# Altium footprint library head2.0mm_5p.PcbLib: 1 footprints
Each footprint in its own frame and in the unit in brackets; x right, y up, seen from the top. Pads: shape width x height; smd on the part's side, far side on the other; paste and mask are expansions set on the pad; w line width, h text height; cw(c..) or ccw(c..) is an arc to the next point about the centre after c.
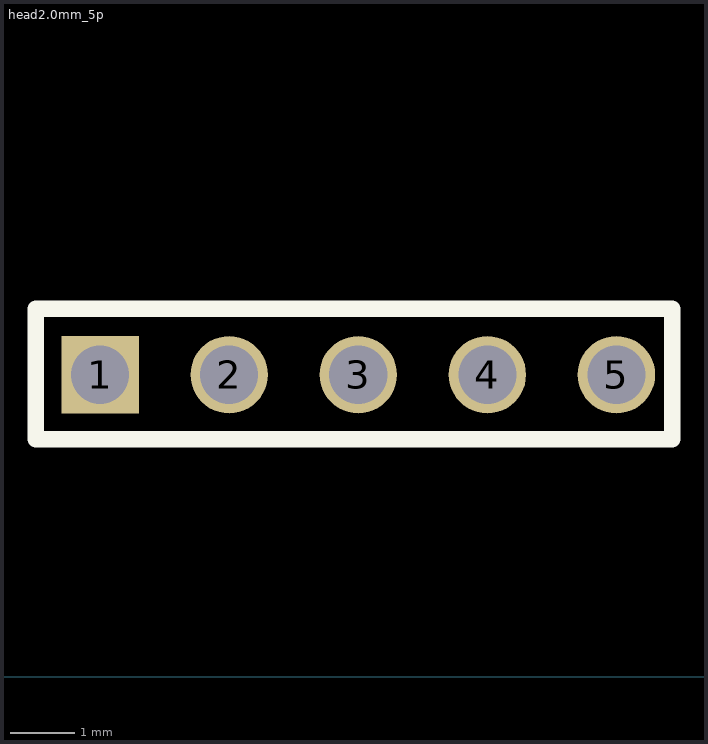
[diagram p0: the footprint, top view; thin cyan lines are the x and y axes]

## head2.0mm_5p [mm]
pads (5):
  rect 1.2x1.2 hole 0.9: 1(4.566,4.679)
  round 1.2 hole 0.9: 2(6.566,4.679) 3(8.566,4.679) 4(10.566,4.679) 5(12.566,4.679)
Top Overlay:
  lines w0.254: 3.57,3.68 13.43,3.68 13.43,5.7 3.57,5.7 3.57,3.68